# Altium schematic symbol library oscillator TH.SchLib: 1 symbol
Pins are listed as number, name and electrical type; pins without a type are passive.

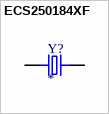
[diagram p0: symbol ECS250184XF]

## ECS250184XF
designator Y?
HC-49USX Series 25 MHz 18 pF â–’30 ppm -10 ~ +70â–‘C Through Hole Quartz Crystal; MF: ECS International; MP: ECS250184XF; SnapEDA_Link: https://www.snapeda.com/parts/ECS250184XF/ECS/view-part/?ref=snap; Package: HC-49USX-4X-2 ECS; Value: *; Check_prices: https://www.snapeda.com/parts/ECS250184XF/ECS/view-part/?ref=eda
footprint XTAL_ECS250184XF
pins: 1, 2